# Altium integrated library Linear Technology Power Management Battery Management.IntLib: 626 symbols (part 27 of 56)
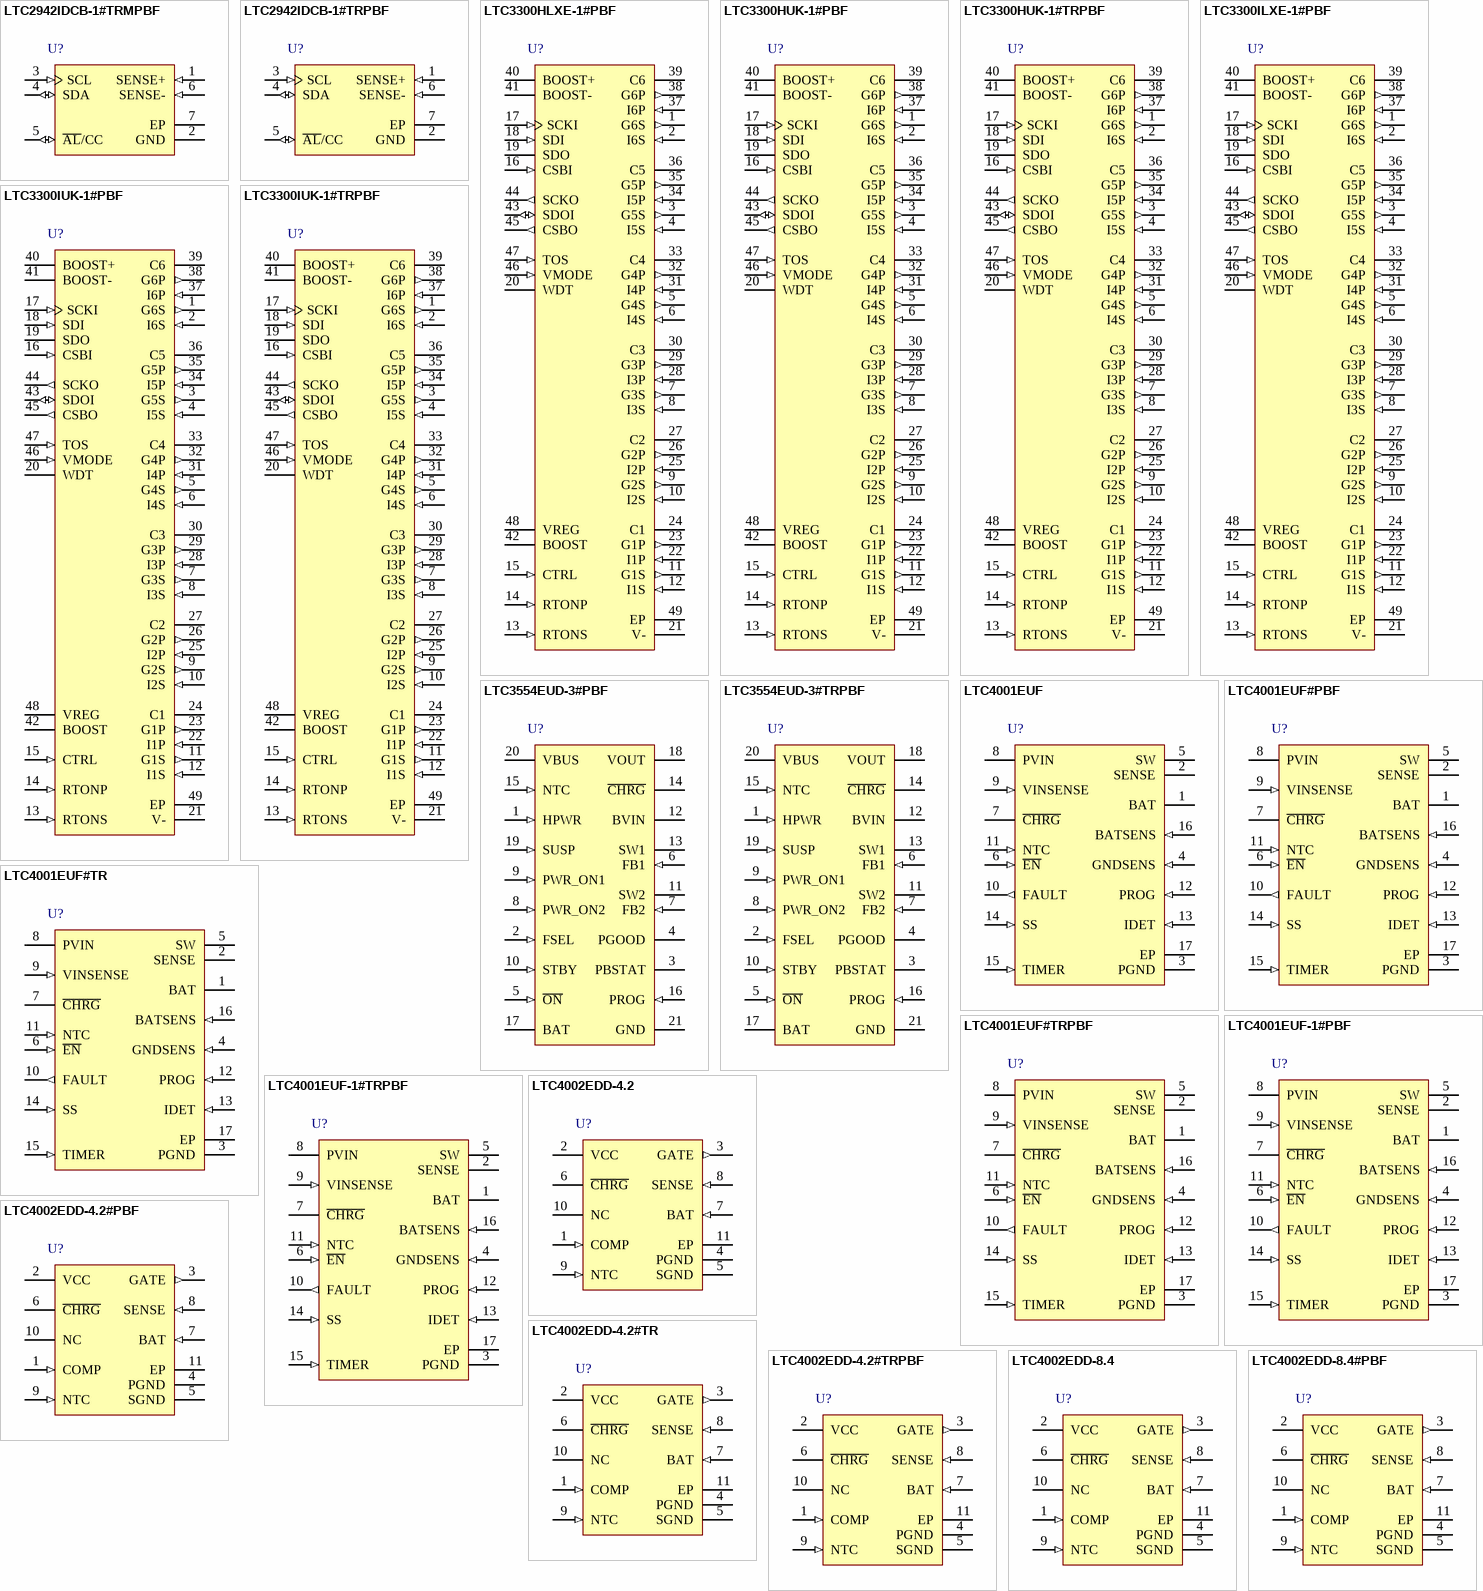
[diagram p48: symbols LTC2942IDCB-1#TRMPBF to LTC4002EDD-8.4#PBF]

## LTC3300HLXE-1#PBF
designator U?
High Efficiency Bidirectional Multicell Battery Balancer, 48-pin QFP (LXE-48), -40 to 150 degC, Pb-Free, Tray; Manufacturer: Linear Technology; PartNumber: LTC3300HLXE-1#PBF; Battery Chemistry: Li-Ion, LiFePO4; Number of Cells: > 1000 V of stacked Li-Ion cells; DatasheetVersion: Rev. A; PackageVersion: Rev. C, 02/2013; PackageReference: LXE-48; PackageDescription: 48-Pin Plastic Exposed Pad LQFP, Body 7 x 7 mm, Pitch 0.5 mm; Supplier 1: Digi-Key; Supplier Part Number 1: LTC3300HLXE-1#PBF-ND; Supplier 2: Farnell; Supplier Part Number 2: 2313441; Supplier 3: Newark; Supplier Part Number 3: 71W8460; Packing: Tray; RoHS: TRUE; Mounting Technology: Surface Mount; ComponentLink1Description: Manufacturer URL; ComponentLink1URL: http://www.linear.com/; ComponentLink2Description: Datasheet; ComponentLink2URL: http://cds.linear.com/docs/en/datasheet/33001fa.pdf; ComponentLink3Description: Package Specification; ComponentLink3URL: http://cds.linear.com/docs/en/packaging/05081832_C_LXE48.pdf
footprint LT-LXE-48_N (QFP, 48-Leads, Body 7x7mm, Pitch 0.5mm, Thermal Pad 3.7x3.7mm, IPC Medium Density)
footprint LT-LXE-48_L (QFP, 48-Leads, Body 7x7mm, Pitch 0.5mm, Thermal Pad 3.7x3.7mm, IPC High Density)
footprint LT-LXE-48_M (QFP, 48-Leads, Body 7x7mm, Pitch 0.5mm, Thermal Pad 3.7x3.7mm, IPC Low Density)
pins: 1 G6S (out) "G1S through G6S are gate driver outputs for driving external NMOS transistors connected in series with the secondary windings of transformers whose primaries are connected in parallel with battery cells 1 through 6. For the (See Datasheet)", 2 I6S (in) "I1S through I6S are current sense inputs for measuring secondary winding current in transformers whose primaries are connected in parallel with battery cells 1 through 6. For the minimum part count balancing application (See Datasheet)", 3 G5S (out) "G1S through G6S are gate driver outputs for driving external NMOS transistors connected in series with the secondary windings of transformers whose primaries are connected in parallel with battery cells 1 through 6. For the (See Datasheet)", 4 I5S (in) "I1S through I6S are current sense inputs for measuring secondary winding current in transformers whose primaries are connected in parallel with battery cells 1 through 6. For the minimum part count balancing application (See Datasheet)", 5 G4S (out) "G1S through G6S are gate driver outputs for driving external NMOS transistors connected in series with the secondary windings of transformers whose primaries are connected in parallel with battery cells 1 through 6. For the (See Datasheet)", 6 I4S (in) "I1S through I6S are current sense inputs for measuring secondary winding current in transformers whose primaries are connected in parallel with battery cells 1 through 6. For the minimum part count balancing application (See Datasheet)", 7 G3S (out) "G1S through G6S are gate driver outputs for driving external NMOS transistors connected in series with the secondary windings of transformers whose primaries are connected in parallel with battery cells 1 through 6. For the (See Datasheet)", 8 I3S (in) "I1S through I6S are current sense inputs for measuring secondary winding current in transformers whose primaries are connected in parallel with battery cells 1 through 6. For the minimum part count balancing application (See Datasheet)", 9 G2S (out) "G1S through G6S are gate driver outputs for driving external NMOS transistors connected in series with the secondary windings of transformers whose primaries are connected in parallel with battery cells 1 through 6. For the (See Datasheet)", 10 I2S (in) "I1S through I6S are current sense inputs for measuring secondary winding current in transformers whose primaries are connected in parallel with battery cells 1 through 6. For the minimum part count balancing application (See Datasheet)", 11 G1S (out) "G1S through G6S are gate driver outputs for driving external NMOS transistors connected in series with the secondary windings of transformers whose primaries are connected in parallel with battery cells 1 through 6. For the (See Datasheet)", 12 I1S (in) "I1S through I6S are current sense inputs for measuring secondary winding current in transformers whose primaries are connected in parallel with battery cells 1 through 6. For the minimum part count balancing application (See Datasheet)", 13 RTONS (in) "Secondary Winding Max tON Setting Resistor. The RTONS pin servos to 1.2V. A resistor to V- programs the maximum on-time for all external NMOS transistors connected in series with secondary windings. This protects against a (See Datasheet)", 14 RTONP (in) "Primary Winding Max tON Setting Resistor. The RTONP pin servos to 1.2V. A resistor to V- programs the maximum on-time for all external NMOS transistors connected in series with primary windings. This protects against a (See Datasheet)", 15 CTRL (in) "Control Input. The CTRL pin configures the LTC3300-1 for the minimum part count application employing a single transformer if CTRL is tied to VREG or for the multiple transformer application if CTRL is tied to V-. This pin (See Datasheet)", 16 CSBI (in) "Chip Select (Active Low) Input. The CSBI pin interfaces to a rail-to-rail output logic gate if VMODE is tied to VREG. CSBI must be driven by the CSBO pin of another LTC3300-1 if VMODE is tied to V-. See Serial Port in the (See Datasheet)", 17 SCKI (in) "Serial Clock Input. The SCKI pin interfaces to a rail-to-rail output logic gate if VMODE is tied to VREG. SCKI must be driven by the SCKO pin of another LTC3300-1 if VMODE is tied to V-. See Serial Port in the Applications (See Datasheet)", 18 SDI (in) "Serial Data Input. When writing data to the LTC3300-1, the SDI pin interfaces to a rail-to-rail output logic gate if VMODE is tied to VREG or must be driven by the SDOI pin of another LTC3300-1 if VMODE is tied to V-. See (See Datasheet)", 19 SDO (oc) "Serial Data Output. When reading data from the LTC3300-1, the SDO pin is an NMOS open-drain output if VMODE is tied to VREG. The SDO pin is not used if VMODE is tied to V-. See Serial Port in the Applications Information (See Datasheet)", 20 WDT (hiz) "Watchdog Timer Output (Active High). At initial power-up and when not attempting to execute a valid balance command, the WDT pin is high impedance and will be pulled high (internally clamped to ~5.6V) if an external pull-up (See Datasheet)", 21 V- (power) "Connect V- to the most negative potential in the series of cells.", 22 I1P (in) "I1P through I6P are current sense inputs for measuring primary winding current in transformers connected in parallel with battery cells 1 through 6.", 23 G1P (out) "G1P through G6P are gate driver outputs for driving external NMOS transistors connected in series with the primary windings of transformers connected in parallel with battery cells 1 through 6.", 24 C1 "C1 through C6 connect to the positive terminals of battery cells 1 through 6. Connect the negative terminal of battery cell 1 to V-.", 25 I2P (in) "I1P through I6P are current sense inputs for measuring primary winding current in transformers connected in parallel with battery cells 1 through 6.", 26 G2P (out) "G1P through G6P are gate driver outputs for driving external NMOS transistors connected in series with the primary windings of transformers connected in parallel with battery cells 1 through 6.", 27 C2 "C1 through C6 connect to the positive terminals of battery cells 1 through 6. Connect the negative terminal of battery cell 1 to V-.", 28 I3P (in) "I1P through I6P are current sense inputs for measuring primary winding current in transformers connected in parallel with battery cells 1 through 6.", 29 G3P (out) "G1P through G6P are gate driver outputs for driving external NMOS transistors connected in series with the primary windings of transformers connected in parallel with battery cells 1 through 6.", 30 C3 "C1 through C6 connect to the positive terminals of battery cells 1 through 6. Connect the negative terminal of battery cell 1 to V-.", 31 I4P (in) "I1P through I6P are current sense inputs for measuring primary winding current in transformers connected in parallel with battery cells 1 through 6.", 32 G4P (out) "G1P through G6P are gate driver outputs for driving external NMOS transistors connected in series with the primary windings of transformers connected in parallel with battery cells 1 through 6.", 33 C4 "C1 through C6 connect to the positive terminals of battery cells 1 through 6. Connect the negative terminal of battery cell 1 to V-.", 34 I5P (in) "I1P through I6P are current sense inputs for measuring primary winding current in transformers connected in parallel with battery cells 1 through 6.", 35 G5P (out) "G1P through G6P are gate driver outputs for driving external NMOS transistors connected in series with the primary windings of transformers connected in parallel with battery cells 1 through 6.", 36 C5 "C1 through C6 connect to the positive terminals of battery cells 1 through 6. Connect the negative terminal of battery cell 1 to V-.", 37 I6P (in) "I1P through I6P are current sense inputs for measuring primary winding current in transformers connected in parallel with battery cells 1 through 6.", 38 G6P (out) "G1P through G6P are gate driver outputs for driving external NMOS transistors connected in series with the primary windings of transformers connected in parallel with battery cells 1 through 6.", 39 C6 "C1 through C6 connect to the positive terminals of battery cells 1 through 6. Connect the negative terminal of battery cell 1 to V-.", 40 BOOST+ "Boost+ Pin. Connects to the anode of the external flying capacitor used for generating sufficient gate drive necessary for balancing the topmost battery cell in a given LTC3300-1 sub-stack. A Schottky diode from C6 to BOOST+ (See Datasheet)", 41 BOOST- "Boost- Pin. Connects to the cathode of the external flying capacitor used for generating sufficient gate drive necessary for balancing the topmost battery cell in a given LTC3300-1 sub-stack. Alternately, if the BOOST+ pin (See Datasheet)", 42 BOOST "Enable Boost Pin. Connect BOOST to VREG to enable the boosted gate drive needed for balancing the top cell in a given LTC3300-1 sub-stack. If the BOOST+ pin can be connected to the next cell up in the stack (i.e., C1 of the (See Datasheet)", 43 SDOI (io) "Serial Data Output/Input. SDOI transfers data to and from the next IC higher in the daisy chain when writing and reading. See Serial Port in the Applications Information section.", 44 SCKO (out) "Serial Clock Output. SCKO is a buffered and one-shotted version of the serial clock input, SCKI, when CSBI is low. SCKO drives the next IC higher in the daisy chain. See Serial Port in the Applications Information section.", 45 CSBO (out) "Chip Select (Active Low) Output. CSBO is a buffered version of the chip select input, CSBI. CSBO drives the next IC higher in the daisy chain. See Serial Port in the Applications Information section.", 46 VMODE (in) "Voltage Mode Input. When VMODE is tied to VREG, the CSBI, SCKI, SDI and SDO pins are configured as voltage inputs and outputs. This means these pins accept VREG-referred rail-to-rail logic levels. Connect VMODE to VREG when (See Datasheet)", 47 TOS (in) "Top Of Stack Input. Tie TOS to VREG when the LTC3300-1 is the top device in a daisy chain. Tie TOS to V- when the LTC3300-1 is any other device in the daisy chain. When TOS is tied to VREG, the LTC3300-1 ignores the SDOI (See Datasheet)", 48 VREG (power) "Linear Voltage Regulator Output. This 4.8V output should be bypassed with a 1uF or larger capacitor to V-. The VREG pin is capable of supplying up to 40mA to internal and external loads. The VREG pin does not sink current.", 49 EP (power) "The exposed pad should be connected to a continuous (ground) plane biased at V- on the second layer of the printed circuit board by several vias directly under the LTC3300-1."

## LTC3300HUK-1#PBF
designator U?
High Efficiency Bidirectional Multicell Battery Balancer, 48-pin QFN (UK-48), -40 to 150 degC, Pb-Free; Manufacturer: Linear Technology; PartNumber: LTC3300HUK-1#PBF; Battery Chemistry: Li-Ion, LiFePO4; Number of Cells: > 1000 V of stacked Li-Ion cells; DatasheetVersion: Rev. A; PackageVersion: Rev. C, 06/2010; PackageReference: UK-48; PackageDescription: 48-Pin Plastic QFN, Body 7 x 7 mm, Pitch 0.5 mm; Supplier 1: Digi-Key; Supplier Part Number 1: LTC3300HUK-1#PBF-ND; Supplier 2: Farnell; Supplier Part Number 2: 2313442; Supplier 3: Newark; Supplier Part Number 3: 71W8461; RoHS: TRUE; Mounting Technology: Surface Mount; Code_JEDEC: MO-220; ComponentLink1Description: Manufacturer URL; ComponentLink1URL: http://www.linear.com/; ComponentLink2Description: Datasheet; ComponentLink2URL: http://cds.linear.com/docs/en/datasheet/33001fa.pdf; ComponentLink3Description: Package Specification; ComponentLink3URL: http://cds.linear.com/docs/en/packaging/QFN_48_05-08-1704.pdf
footprint LT-UK-48_N (QFN, 48-Leads, Body 7.1x7.1mm, Pitch 0.5mm, Thermal Pad 5.15x5.15mm, IPC Medium Density)
footprint LT-UK-48_L (QFN, 48-Leads, Body 7.1x7.1mm, Pitch 0.5mm, Thermal Pad 5.15x5.15mm, IPC High Density)
footprint LT-UK-48_M (QFN, 48-Leads, Body 7.1x7.1mm, Pitch 0.5mm, Thermal Pad 5.15x5.15mm, IPC Low Density)
pins: 1 G6S (out) "G1S through G6S are gate driver outputs for driving external NMOS transistors connected in series with the secondary windings of transformers whose primaries are connected in parallel with battery cells 1 through 6. For the (See Datasheet)", 2 I6S (in) "I1S through I6S are current sense inputs for measuring secondary winding current in transformers whose primaries are connected in parallel with battery cells 1 through 6. For the minimum part count balancing application (See Datasheet)", 3 G5S (out) "G1S through G6S are gate driver outputs for driving external NMOS transistors connected in series with the secondary windings of transformers whose primaries are connected in parallel with battery cells 1 through 6. For the (See Datasheet)", 4 I5S (in) "I1S through I6S are current sense inputs for measuring secondary winding current in transformers whose primaries are connected in parallel with battery cells 1 through 6. For the minimum part count balancing application (See Datasheet)", 5 G4S (out) "G1S through G6S are gate driver outputs for driving external NMOS transistors connected in series with the secondary windings of transformers whose primaries are connected in parallel with battery cells 1 through 6. For the (See Datasheet)", 6 I4S (in) "I1S through I6S are current sense inputs for measuring secondary winding current in transformers whose primaries are connected in parallel with battery cells 1 through 6. For the minimum part count balancing application (See Datasheet)", 7 G3S (out) "G1S through G6S are gate driver outputs for driving external NMOS transistors connected in series with the secondary windings of transformers whose primaries are connected in parallel with battery cells 1 through 6. For the (See Datasheet)", 8 I3S (in) "I1S through I6S are current sense inputs for measuring secondary winding current in transformers whose primaries are connected in parallel with battery cells 1 through 6. For the minimum part count balancing application (See Datasheet)", 9 G2S (out) "G1S through G6S are gate driver outputs for driving external NMOS transistors connected in series with the secondary windings of transformers whose primaries are connected in parallel with battery cells 1 through 6. For the (See Datasheet)", 10 I2S (in) "I1S through I6S are current sense inputs for measuring secondary winding current in transformers whose primaries are connected in parallel with battery cells 1 through 6. For the minimum part count balancing application (See Datasheet)", 11 G1S (out) "G1S through G6S are gate driver outputs for driving external NMOS transistors connected in series with the secondary windings of transformers whose primaries are connected in parallel with battery cells 1 through 6. For the (See Datasheet)", 12 I1S (in) "I1S through I6S are current sense inputs for measuring secondary winding current in transformers whose primaries are connected in parallel with battery cells 1 through 6. For the minimum part count balancing application (See Datasheet)", 13 RTONS (in) "Secondary Winding Max tON Setting Resistor. The RTONS pin servos to 1.2V. A resistor to V- programs the maximum on-time for all external NMOS transistors connected in series with secondary windings. This protects against a (See Datasheet)", 14 RTONP (in) "Primary Winding Max tON Setting Resistor. The RTONP pin servos to 1.2V. A resistor to V- programs the maximum on-time for all external NMOS transistors connected in series with primary windings. This protects against a (See Datasheet)", 15 CTRL (in) "Control Input. The CTRL pin configures the LTC3300-1 for the minimum part count application employing a single transformer if CTRL is tied to VREG or for the multiple transformer application if CTRL is tied to V-. This pin (See Datasheet)", 16 CSBI (in) "Chip Select (Active Low) Input. The CSBI pin interfaces to a rail-to-rail output logic gate if VMODE is tied to VREG. CSBI must be driven by the CSBO pin of another LTC3300-1 if VMODE is tied to V-. See Serial Port in the (See Datasheet)", 17 SCKI (in) "Serial Clock Input. The SCKI pin interfaces to a rail-to-rail output logic gate if VMODE is tied to VREG. SCKI must be driven by the SCKO pin of another LTC3300-1 if VMODE is tied to V-. See Serial Port in the Applications (See Datasheet)", 18 SDI (in) "Serial Data Input. When writing data to the LTC3300-1, the SDI pin interfaces to a rail-to-rail output logic gate if VMODE is tied to VREG or must be driven by the SDOI pin of another LTC3300-1 if VMODE is tied to V-. See (See Datasheet)", 19 SDO (oc) "Serial Data Output. When reading data from the LTC3300-1, the SDO pin is an NMOS open-drain output if VMODE is tied to VREG. The SDO pin is not used if VMODE is tied to V-. See Serial Port in the Applications Information (See Datasheet)", 20 WDT (hiz) "Watchdog Timer Output (Active High). At initial power-up and when not attempting to execute a valid balance command, the WDT pin is high impedance and will be pulled high (internally clamped to ~5.6V) if an external pull-up (See Datasheet)", 21 V- (power) "Connect V- to the most negative potential in the series of cells.", 22 I1P (in) "I1P through I6P are current sense inputs for measuring primary winding current in transformers connected in parallel with battery cells 1 through 6.", 23 G1P (out) "G1P through G6P are gate driver outputs for driving external NMOS transistors connected in series with the primary windings of transformers connected in parallel with battery cells 1 through 6.", 24 C1 "C1 through C6 connect to the positive terminals of battery cells 1 through 6. Connect the negative terminal of battery cell 1 to V-.", 25 I2P (in) "I1P through I6P are current sense inputs for measuring primary winding current in transformers connected in parallel with battery cells 1 through 6.", 26 G2P (out) "G1P through G6P are gate driver outputs for driving external NMOS transistors connected in series with the primary windings of transformers connected in parallel with battery cells 1 through 6.", 27 C2 "C1 through C6 connect to the positive terminals of battery cells 1 through 6. Connect the negative terminal of battery cell 1 to V-.", 28 I3P (in) "I1P through I6P are current sense inputs for measuring primary winding current in transformers connected in parallel with battery cells 1 through 6.", 29 G3P (out) "G1P through G6P are gate driver outputs for driving external NMOS transistors connected in series with the primary windings of transformers connected in parallel with battery cells 1 through 6.", 30 C3 "C1 through C6 connect to the positive terminals of battery cells 1 through 6. Connect the negative terminal of battery cell 1 to V-.", 31 I4P (in) "I1P through I6P are current sense inputs for measuring primary winding current in transformers connected in parallel with battery cells 1 through 6.", 32 G4P (out) "G1P through G6P are gate driver outputs for driving external NMOS transistors connected in series with the primary windings of transformers connected in parallel with battery cells 1 through 6.", 33 C4 "C1 through C6 connect to the positive terminals of battery cells 1 through 6. Connect the negative terminal of battery cell 1 to V-.", 34 I5P (in) "I1P through I6P are current sense inputs for measuring primary winding current in transformers connected in parallel with battery cells 1 through 6.", 35 G5P (out) "G1P through G6P are gate driver outputs for driving external NMOS transistors connected in series with the primary windings of transformers connected in parallel with battery cells 1 through 6.", 36 C5 "C1 through C6 connect to the positive terminals of battery cells 1 through 6. Connect the negative terminal of battery cell 1 to V-.", 37 I6P (in) "I1P through I6P are current sense inputs for measuring primary winding current in transformers connected in parallel with battery cells 1 through 6.", 38 G6P (out) "G1P through G6P are gate driver outputs for driving external NMOS transistors connected in series with the primary windings of transformers connected in parallel with battery cells 1 through 6.", 39 C6 "C1 through C6 connect to the positive terminals of battery cells 1 through 6. Connect the negative terminal of battery cell 1 to V-.", 40 BOOST+ "Boost+ Pin. Connects to the anode of the external flying capacitor used for generating sufficient gate drive necessary for balancing the topmost battery cell in a given LTC3300-1 sub-stack. A Schottky diode from C6 to BOOST+ (See Datasheet)", 41 BOOST- "Boost- Pin. Connects to the cathode of the external flying capacitor used for generating sufficient gate drive necessary for balancing the topmost battery cell in a given LTC3300-1 sub-stack. Alternately, if the BOOST+ pin (See Datasheet)", 42 BOOST "Enable Boost Pin. Connect BOOST to VREG to enable the boosted gate drive needed for balancing the top cell in a given LTC3300-1 sub-stack. If the BOOST+ pin can be connected to the next cell up in the stack (i.e., C1 of the (See Datasheet)", 43 SDOI (io) "Serial Data Output/Input. SDOI transfers data to and from the next IC higher in the daisy chain when writing and reading. See Serial Port in the Applications Information section.", 44 SCKO (out) "Serial Clock Output. SCKO is a buffered and one-shotted version of the serial clock input, SCKI, when CSBI is low. SCKO drives the next IC higher in the daisy chain. See Serial Port in the Applications Information section.", 45 CSBO (out) "Chip Select (Active Low) Output. CSBO is a buffered version of the chip select input, CSBI. CSBO drives the next IC higher in the daisy chain. See Serial Port in the Applications Information section.", 46 VMODE (in) "Voltage Mode Input. When VMODE is tied to VREG, the CSBI, SCKI, SDI and SDO pins are configured as voltage inputs and outputs. This means these pins accept VREG-referred rail-to-rail logic levels. Connect VMODE to VREG when (See Datasheet)", 47 TOS (in) "Top Of Stack Input. Tie TOS to VREG when the LTC3300-1 is the top device in a daisy chain. Tie TOS to V- when the LTC3300-1 is any other device in the daisy chain. When TOS is tied to VREG, the LTC3300-1 ignores the SDOI (See Datasheet)", 48 VREG (power) "Linear Voltage Regulator Output. This 4.8V output should be bypassed with a 1uF or larger capacitor to V-. The VREG pin is capable of supplying up to 40mA to internal and external loads. The VREG pin does not sink current.", 49 EP (power) "The exposed pad should be connected to a continuous (ground) plane biased at V- on the second layer of the printed circuit board by several vias directly under the LTC3300-1."

## LTC3300HUK-1#TRPBF
designator U?
High Efficiency Bidirectional Multicell Battery Balancer, 48-pin QFN (UK-48), -40 to 150 degC, Pb-Free, Tape and Reel; Manufacturer: Linear Technology; PartNumber: LTC3300HUK-1#TRPBF; Battery Chemistry: Li-Ion, LiFePO4; Number of Cells: > 1000 V of stacked Li-Ion cells; DatasheetVersion: Rev. A; PackageVersion: Rev. C, 06/2010; PackageReference: UK-48; PackageDescription: 48-Pin Plastic QFN, Body 7 x 7 mm, Pitch 0.5 mm; Supplier 1: Digi-Key; Supplier Part Number 1: LTC3300HUK-1#TRPBF-ND; Supplier 2: Newark; Supplier Part Number 2: 71W8462; Packing: Tape and Reel; RoHS: TRUE; Mounting Technology: Surface Mount; Code_JEDEC: MO-220; ComponentLink1Description: Manufacturer URL; ComponentLink1URL: http://www.linear.com/; ComponentLink2Description: Datasheet; ComponentLink2URL: http://cds.linear.com/docs/en/datasheet/33001fa.pdf; ComponentLink3Description: Package Specification; ComponentLink3URL: http://cds.linear.com/docs/en/packaging/QFN_48_05-08-1704.pdf
footprint LT-UK-48_N (QFN, 48-Leads, Body 7.1x7.1mm, Pitch 0.5mm, Thermal Pad 5.15x5.15mm, IPC Medium Density)
footprint LT-UK-48_L (QFN, 48-Leads, Body 7.1x7.1mm, Pitch 0.5mm, Thermal Pad 5.15x5.15mm, IPC High Density)
footprint LT-UK-48_M (QFN, 48-Leads, Body 7.1x7.1mm, Pitch 0.5mm, Thermal Pad 5.15x5.15mm, IPC Low Density)
pins: 1 G6S (out) "G1S through G6S are gate driver outputs for driving external NMOS transistors connected in series with the secondary windings of transformers whose primaries are connected in parallel with battery cells 1 through 6. For the (See Datasheet)", 2 I6S (in) "I1S through I6S are current sense inputs for measuring secondary winding current in transformers whose primaries are connected in parallel with battery cells 1 through 6. For the minimum part count balancing application (See Datasheet)", 3 G5S (out) "G1S through G6S are gate driver outputs for driving external NMOS transistors connected in series with the secondary windings of transformers whose primaries are connected in parallel with battery cells 1 through 6. For the (See Datasheet)", 4 I5S (in) "I1S through I6S are current sense inputs for measuring secondary winding current in transformers whose primaries are connected in parallel with battery cells 1 through 6. For the minimum part count balancing application (See Datasheet)", 5 G4S (out) "G1S through G6S are gate driver outputs for driving external NMOS transistors connected in series with the secondary windings of transformers whose primaries are connected in parallel with battery cells 1 through 6. For the (See Datasheet)", 6 I4S (in) "I1S through I6S are current sense inputs for measuring secondary winding current in transformers whose primaries are connected in parallel with battery cells 1 through 6. For the minimum part count balancing application (See Datasheet)", 7 G3S (out) "G1S through G6S are gate driver outputs for driving external NMOS transistors connected in series with the secondary windings of transformers whose primaries are connected in parallel with battery cells 1 through 6. For the (See Datasheet)", 8 I3S (in) "I1S through I6S are current sense inputs for measuring secondary winding current in transformers whose primaries are connected in parallel with battery cells 1 through 6. For the minimum part count balancing application (See Datasheet)", 9 G2S (out) "G1S through G6S are gate driver outputs for driving external NMOS transistors connected in series with the secondary windings of transformers whose primaries are connected in parallel with battery cells 1 through 6. For the (See Datasheet)", 10 I2S (in) "I1S through I6S are current sense inputs for measuring secondary winding current in transformers whose primaries are connected in parallel with battery cells 1 through 6. For the minimum part count balancing application (See Datasheet)", 11 G1S (out) "G1S through G6S are gate driver outputs for driving external NMOS transistors connected in series with the secondary windings of transformers whose primaries are connected in parallel with battery cells 1 through 6. For the (See Datasheet)", 12 I1S (in) "I1S through I6S are current sense inputs for measuring secondary winding current in transformers whose primaries are connected in parallel with battery cells 1 through 6. For the minimum part count balancing application (See Datasheet)", 13 RTONS (in) "Secondary Winding Max tON Setting Resistor. The RTONS pin servos to 1.2V. A resistor to V- programs the maximum on-time for all external NMOS transistors connected in series with secondary windings. This protects against a (See Datasheet)", 14 RTONP (in) "Primary Winding Max tON Setting Resistor. The RTONP pin servos to 1.2V. A resistor to V- programs the maximum on-time for all external NMOS transistors connected in series with primary windings. This protects against a (See Datasheet)", 15 CTRL (in) "Control Input. The CTRL pin configures the LTC3300-1 for the minimum part count application employing a single transformer if CTRL is tied to VREG or for the multiple transformer application if CTRL is tied to V-. This pin (See Datasheet)", 16 CSBI (in) "Chip Select (Active Low) Input. The CSBI pin interfaces to a rail-to-rail output logic gate if VMODE is tied to VREG. CSBI must be driven by the CSBO pin of another LTC3300-1 if VMODE is tied to V-. See Serial Port in the (See Datasheet)", 17 SCKI (in) "Serial Clock Input. The SCKI pin interfaces to a rail-to-rail output logic gate if VMODE is tied to VREG. SCKI must be driven by the SCKO pin of another LTC3300-1 if VMODE is tied to V-. See Serial Port in the Applications (See Datasheet)", 18 SDI (in) "Serial Data Input. When writing data to the LTC3300-1, the SDI pin interfaces to a rail-to-rail output logic gate if VMODE is tied to VREG or must be driven by the SDOI pin of another LTC3300-1 if VMODE is tied to V-. See (See Datasheet)", 19 SDO (oc) "Serial Data Output. When reading data from the LTC3300-1, the SDO pin is an NMOS open-drain output if VMODE is tied to VREG. The SDO pin is not used if VMODE is tied to V-. See Serial Port in the Applications Information (See Datasheet)", 20 WDT (hiz) "Watchdog Timer Output (Active High). At initial power-up and when not attempting to execute a valid balance command, the WDT pin is high impedance and will be pulled high (internally clamped to ~5.6V) if an external pull-up (See Datasheet)", 21 V- (power) "Connect V- to the most negative potential in the series of cells.", 22 I1P (in) "I1P through I6P are current sense inputs for measuring primary winding current in transformers connected in parallel with battery cells 1 through 6.", 23 G1P (out) "G1P through G6P are gate driver outputs for driving external NMOS transistors connected in series with the primary windings of transformers connected in parallel with battery cells 1 through 6.", 24 C1 "C1 through C6 connect to the positive terminals of battery cells 1 through 6. Connect the negative terminal of battery cell 1 to V-.", 25 I2P (in) "I1P through I6P are current sense inputs for measuring primary winding current in transformers connected in parallel with battery cells 1 through 6.", 26 G2P (out) "G1P through G6P are gate driver outputs for driving external NMOS transistors connected in series with the primary windings of transformers connected in parallel with battery cells 1 through 6.", 27 C2 "C1 through C6 connect to the positive terminals of battery cells 1 through 6. Connect the negative terminal of battery cell 1 to V-.", 28 I3P (in) "I1P through I6P are current sense inputs for measuring primary winding current in transformers connected in parallel with battery cells 1 through 6.", 29 G3P (out) "G1P through G6P are gate driver outputs for driving external NMOS transistors connected in series with the primary windings of transformers connected in parallel with battery cells 1 through 6.", 30 C3 "C1 through C6 connect to the positive terminals of battery cells 1 through 6. Connect the negative terminal of battery cell 1 to V-.", 31 I4P (in) "I1P through I6P are current sense inputs for measuring primary winding current in transformers connected in parallel with battery cells 1 through 6.", 32 G4P (out) "G1P through G6P are gate driver outputs for driving external NMOS transistors connected in series with the primary windings of transformers connected in parallel with battery cells 1 through 6.", 33 C4 "C1 through C6 connect to the positive terminals of battery cells 1 through 6. Connect the negative terminal of battery cell 1 to V-.", 34 I5P (in) "I1P through I6P are current sense inputs for measuring primary winding current in transformers connected in parallel with battery cells 1 through 6.", 35 G5P (out) "G1P through G6P are gate driver outputs for driving external NMOS transistors connected in series with the primary windings of transformers connected in parallel with battery cells 1 through 6.", 36 C5 "C1 through C6 connect to the positive terminals of battery cells 1 through 6. Connect the negative terminal of battery cell 1 to V-.", 37 I6P (in) "I1P through I6P are current sense inputs for measuring primary winding current in transformers connected in parallel with battery cells 1 through 6.", 38 G6P (out) "G1P through G6P are gate driver outputs for driving external NMOS transistors connected in series with the primary windings of transformers connected in parallel with battery cells 1 through 6.", 39 C6 "C1 through C6 connect to the positive terminals of battery cells 1 through 6. Connect the negative terminal of battery cell 1 to V-.", 40 BOOST+ "Boost+ Pin. Connects to the anode of the external flying capacitor used for generating sufficient gate drive necessary for balancing the topmost battery cell in a given LTC3300-1 sub-stack. A Schottky diode from C6 to BOOST+ (See Datasheet)", 41 BOOST- "Boost- Pin. Connects to the cathode of the external flying capacitor used for generating sufficient gate drive necessary for balancing the topmost battery cell in a given LTC3300-1 sub-stack. Alternately, if the BOOST+ pin (See Datasheet)", 42 BOOST "Enable Boost Pin. Connect BOOST to VREG to enable the boosted gate drive needed for balancing the top cell in a given LTC3300-1 sub-stack. If the BOOST+ pin can be connected to the next cell up in the stack (i.e., C1 of the (See Datasheet)", 43 SDOI (io) "Serial Data Output/Input. SDOI transfers data to and from the next IC higher in the daisy chain when writing and reading. See Serial Port in the Applications Information section.", 44 SCKO (out) "Serial Clock Output. SCKO is a buffered and one-shotted version of the serial clock input, SCKI, when CSBI is low. SCKO drives the next IC higher in the daisy chain. See Serial Port in the Applications Information section.", 45 CSBO (out) "Chip Select (Active Low) Output. CSBO is a buffered version of the chip select input, CSBI. CSBO drives the next IC higher in the daisy chain. See Serial Port in the Applications Information section.", 46 VMODE (in) "Voltage Mode Input. When VMODE is tied to VREG, the CSBI, SCKI, SDI and SDO pins are configured as voltage inputs and outputs. This means these pins accept VREG-referred rail-to-rail logic levels. Connect VMODE to VREG when (See Datasheet)", 47 TOS (in) "Top Of Stack Input. Tie TOS to VREG when the LTC3300-1 is the top device in a daisy chain. Tie TOS to V- when the LTC3300-1 is any other device in the daisy chain. When TOS is tied to VREG, the LTC3300-1 ignores the SDOI (See Datasheet)", 48 VREG (power) "Linear Voltage Regulator Output. This 4.8V output should be bypassed with a 1uF or larger capacitor to V-. The VREG pin is capable of supplying up to 40mA to internal and external loads. The VREG pin does not sink current.", 49 EP (power) "The exposed pad should be connected to a continuous (ground) plane biased at V- on the second layer of the printed circuit board by several vias directly under the LTC3300-1."

## LTC3300ILXE-1#PBF
designator U?
High Efficiency Bidirectional Multicell Battery Balancer, 48-pin QFP (LXE-48), -40 to 125 degC, Pb-Free, Tray; Manufacturer: Linear Technology; PartNumber: LTC3300ILXE-1#PBF; Battery Chemistry: Li-Ion, LiFePO4; Number of Cells: > 1000 V of stacked Li-Ion cells; DatasheetVersion: Rev. A; PackageVersion: Rev. C, 02/2013; PackageReference: LXE-48; PackageDescription: 48-Pin Plastic Exposed Pad LQFP, Body 7 x 7 mm, Pitch 0.5 mm; Supplier 1: Digi-Key; Supplier Part Number 1: LTC3300ILXE-1#PBF-ND; Supplier 2: Farnell; Supplier Part Number 2: 2313444; Supplier 3: Newark; Supplier Part Number 3: 71W8463; Packing: Tray; RoHS: TRUE; Mounting Technology: Surface Mount; ComponentLink1Description: Manufacturer URL; ComponentLink1URL: http://www.linear.com/; ComponentLink2Description: Datasheet; ComponentLink2URL: http://cds.linear.com/docs/en/datasheet/33001fa.pdf; ComponentLink3Description: Package Specification; ComponentLink3URL: http://cds.linear.com/docs/en/packaging/05081832_C_LXE48.pdf
footprint LT-LXE-48_N (QFP, 48-Leads, Body 7x7mm, Pitch 0.5mm, Thermal Pad 3.7x3.7mm, IPC Medium Density)
footprint LT-LXE-48_L (QFP, 48-Leads, Body 7x7mm, Pitch 0.5mm, Thermal Pad 3.7x3.7mm, IPC High Density)
footprint LT-LXE-48_M (QFP, 48-Leads, Body 7x7mm, Pitch 0.5mm, Thermal Pad 3.7x3.7mm, IPC Low Density)
pins: 1 G6S (out) "G1S through G6S are gate driver outputs for driving external NMOS transistors connected in series with the secondary windings of transformers whose primaries are connected in parallel with battery cells 1 through 6. For the (See Datasheet)", 2 I6S (in) "I1S through I6S are current sense inputs for measuring secondary winding current in transformers whose primaries are connected in parallel with battery cells 1 through 6. For the minimum part count balancing application (See Datasheet)", 3 G5S (out) "G1S through G6S are gate driver outputs for driving external NMOS transistors connected in series with the secondary windings of transformers whose primaries are connected in parallel with battery cells 1 through 6. For the (See Datasheet)", 4 I5S (in) "I1S through I6S are current sense inputs for measuring secondary winding current in transformers whose primaries are connected in parallel with battery cells 1 through 6. For the minimum part count balancing application (See Datasheet)", 5 G4S (out) "G1S through G6S are gate driver outputs for driving external NMOS transistors connected in series with the secondary windings of transformers whose primaries are connected in parallel with battery cells 1 through 6. For the (See Datasheet)", 6 I4S (in) "I1S through I6S are current sense inputs for measuring secondary winding current in transformers whose primaries are connected in parallel with battery cells 1 through 6. For the minimum part count balancing application (See Datasheet)", 7 G3S (out) "G1S through G6S are gate driver outputs for driving external NMOS transistors connected in series with the secondary windings of transformers whose primaries are connected in parallel with battery cells 1 through 6. For the (See Datasheet)", 8 I3S (in) "I1S through I6S are current sense inputs for measuring secondary winding current in transformers whose primaries are connected in parallel with battery cells 1 through 6. For the minimum part count balancing application (See Datasheet)", 9 G2S (out) "G1S through G6S are gate driver outputs for driving external NMOS transistors connected in series with the secondary windings of transformers whose primaries are connected in parallel with battery cells 1 through 6. For the (See Datasheet)", 10 I2S (in) "I1S through I6S are current sense inputs for measuring secondary winding current in transformers whose primaries are connected in parallel with battery cells 1 through 6. For the minimum part count balancing application (See Datasheet)", 11 G1S (out) "G1S through G6S are gate driver outputs for driving external NMOS transistors connected in series with the secondary windings of transformers whose primaries are connected in parallel with battery cells 1 through 6. For the (See Datasheet)", 12 I1S (in) "I1S through I6S are current sense inputs for measuring secondary winding current in transformers whose primaries are connected in parallel with battery cells 1 through 6. For the minimum part count balancing application (See Datasheet)", 13 RTONS (in) "Secondary Winding Max tON Setting Resistor. The RTONS pin servos to 1.2V. A resistor to V- programs the maximum on-time for all external NMOS transistors connected in series with secondary windings. This protects against a (See Datasheet)", 14 RTONP (in) "Primary Winding Max tON Setting Resistor. The RTONP pin servos to 1.2V. A resistor to V- programs the maximum on-time for all external NMOS transistors connected in series with primary windings. This protects against a (See Datasheet)", 15 CTRL (in) "Control Input. The CTRL pin configures the LTC3300-1 for the minimum part count application employing a single transformer if CTRL is tied to VREG or for the multiple transformer application if CTRL is tied to V-. This pin (See Datasheet)", 16 CSBI (in) "Chip Select (Active Low) Input. The CSBI pin interfaces to a rail-to-rail output logic gate if VMODE is tied to VREG. CSBI must be driven by the CSBO pin of another LTC3300-1 if VMODE is tied to V-. See Serial Port in the (See Datasheet)", 17 SCKI (in) "Serial Clock Input. The SCKI pin interfaces to a rail-to-rail output logic gate if VMODE is tied to VREG. SCKI must be driven by the SCKO pin of another LTC3300-1 if VMODE is tied to V-. See Serial Port in the Applications (See Datasheet)", 18 SDI (in) "Serial Data Input. When writing data to the LTC3300-1, the SDI pin interfaces to a rail-to-rail output logic gate if VMODE is tied to VREG or must be driven by the SDOI pin of another LTC3300-1 if VMODE is tied to V-. See (See Datasheet)", 19 SDO (oc) "Serial Data Output. When reading data from the LTC3300-1, the SDO pin is an NMOS open-drain output if VMODE is tied to VREG. The SDO pin is not used if VMODE is tied to V-. See Serial Port in the Applications Information (See Datasheet)", 20 WDT (hiz) "Watchdog Timer Output (Active High). At initial power-up and when not attempting to execute a valid balance command, the WDT pin is high impedance and will be pulled high (internally clamped to ~5.6V) if an external pull-up (See Datasheet)", 21 V- (power) "Connect V- to the most negative potential in the series of cells.", 22 I1P (in) "I1P through I6P are current sense inputs for measuring primary winding current in transformers connected in parallel with battery cells 1 through 6.", 23 G1P (out) "G1P through G6P are gate driver outputs for driving external NMOS transistors connected in series with the primary windings of transformers connected in parallel with battery cells 1 through 6.", 24 C1 "C1 through C6 connect to the positive terminals of battery cells 1 through 6. Connect the negative terminal of battery cell 1 to V-.", 25 I2P (in) "I1P through I6P are current sense inputs for measuring primary winding current in transformers connected in parallel with battery cells 1 through 6.", 26 G2P (out) "G1P through G6P are gate driver outputs for driving external NMOS transistors connected in series with the primary windings of transformers connected in parallel with battery cells 1 through 6.", 27 C2 "C1 through C6 connect to the positive terminals of battery cells 1 through 6. Connect the negative terminal of battery cell 1 to V-.", 28 I3P (in) "I1P through I6P are current sense inputs for measuring primary winding current in transformers connected in parallel with battery cells 1 through 6.", 29 G3P (out) "G1P through G6P are gate driver outputs for driving external NMOS transistors connected in series with the primary windings of transformers connected in parallel with battery cells 1 through 6.", 30 C3 "C1 through C6 connect to the positive terminals of battery cells 1 through 6. Connect the negative terminal of battery cell 1 to V-.", 31 I4P (in) "I1P through I6P are current sense inputs for measuring primary winding current in transformers connected in parallel with battery cells 1 through 6.", 32 G4P (out) "G1P through G6P are gate driver outputs for driving external NMOS transistors connected in series with the primary windings of transformers connected in parallel with battery cells 1 through 6.", 33 C4 "C1 through C6 connect to the positive terminals of battery cells 1 through 6. Connect the negative terminal of battery cell 1 to V-.", 34 I5P (in) "I1P through I6P are current sense inputs for measuring primary winding current in transformers connected in parallel with battery cells 1 through 6.", 35 G5P (out) "G1P through G6P are gate driver outputs for driving external NMOS transistors connected in series with the primary windings of transformers connected in parallel with battery cells 1 through 6.", 36 C5 "C1 through C6 connect to the positive terminals of battery cells 1 through 6. Connect the negative terminal of battery cell 1 to V-.", 37 I6P (in) "I1P through I6P are current sense inputs for measuring primary winding current in transformers connected in parallel with battery cells 1 through 6.", 38 G6P (out) "G1P through G6P are gate driver outputs for driving external NMOS transistors connected in series with the primary windings of transformers connected in parallel with battery cells 1 through 6.", 39 C6 "C1 through C6 connect to the positive terminals of battery cells 1 through 6. Connect the negative terminal of battery cell 1 to V-.", 40 BOOST+ "Boost+ Pin. Connects to the anode of the external flying capacitor used for generating sufficient gate drive necessary for balancing the topmost battery cell in a given LTC3300-1 sub-stack. A Schottky diode from C6 to BOOST+ (See Datasheet)", 41 BOOST- "Boost- Pin. Connects to the cathode of the external flying capacitor used for generating sufficient gate drive necessary for balancing the topmost battery cell in a given LTC3300-1 sub-stack. Alternately, if the BOOST+ pin (See Datasheet)", 42 BOOST "Enable Boost Pin. Connect BOOST to VREG to enable the boosted gate drive needed for balancing the top cell in a given LTC3300-1 sub-stack. If the BOOST+ pin can be connected to the next cell up in the stack (i.e., C1 of the (See Datasheet)", 43 SDOI (io) "Serial Data Output/Input. SDOI transfers data to and from the next IC higher in the daisy chain when writing and reading. See Serial Port in the Applications Information section.", 44 SCKO (out) "Serial Clock Output. SCKO is a buffered and one-shotted version of the serial clock input, SCKI, when CSBI is low. SCKO drives the next IC higher in the daisy chain. See Serial Port in the Applications Information section.", 45 CSBO (out) "Chip Select (Active Low) Output. CSBO is a buffered version of the chip select input, CSBI. CSBO drives the next IC higher in the daisy chain. See Serial Port in the Applications Information section.", 46 VMODE (in) "Voltage Mode Input. When VMODE is tied to VREG, the CSBI, SCKI, SDI and SDO pins are configured as voltage inputs and outputs. This means these pins accept VREG-referred rail-to-rail logic levels. Connect VMODE to VREG when (See Datasheet)", 47 TOS (in) "Top Of Stack Input. Tie TOS to VREG when the LTC3300-1 is the top device in a daisy chain. Tie TOS to V- when the LTC3300-1 is any other device in the daisy chain. When TOS is tied to VREG, the LTC3300-1 ignores the SDOI (See Datasheet)", 48 VREG (power) "Linear Voltage Regulator Output. This 4.8V output should be bypassed with a 1uF or larger capacitor to V-. The VREG pin is capable of supplying up to 40mA to internal and external loads. The VREG pin does not sink current.", 49 EP (power) "The exposed pad should be connected to a continuous (ground) plane biased at V- on the second layer of the printed circuit board by several vias directly under the LTC3300-1."